# Altium footprint library TO254P1515X470-3N.PcbLib: 2 footprints
Each footprint in its own frame and in the unit in brackets; x right, y up, seen from the top. Pads: shape width x height; smd on the part's side, far side on the other; paste and mask are expansions set on the pad; w line width, h text height; cw(c..) or ccw(c..) is an arc to the next point about the centre after c.
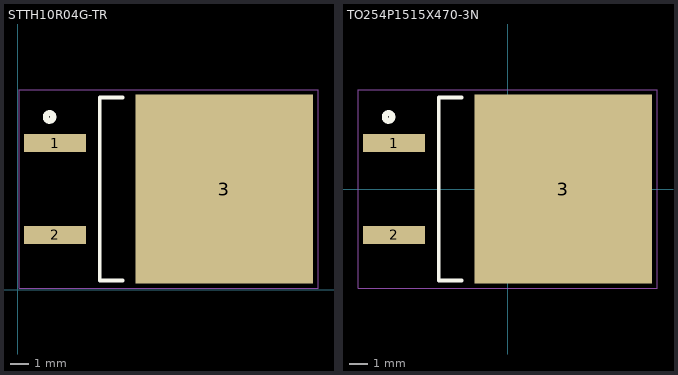
[diagram p0: the footprints below, top view; thin cyan lines are the x and y axes]

## STTH10R04G-TR [mm]
pads (3):
  rect 3.45x1 smd: 1(2.082,8.128) 2(2.082,3.048)
  rect 9.85x10.5 smd: 3(11.482,5.588)
Top Overlay:
  circle w0.2: c1.782,9.588 r0.141
  circle w0.2: c1.782,9.588 r0.283
  lines w0.2: 5.842,0.508 4.572,0.508 4.572,10.668 5.842,10.668
Top Paste:
  region: 14.132,2.348 15.482,2.348 15.482,0.82 14.132,0.82
  region: 12.007,2.348 13.362,2.348 13.362,0.822 12.007,0.822
  region: 9.854,2.348 11.212,2.348 11.212,0.821 9.854,0.821
  region: 7.701,2.348 9.062,2.348 9.062,0.819 7.701,0.819
  region: 14.123,4.348 15.482,4.348 15.482,2.827 14.123,2.827
  region: 12.004,4.348 13.362,4.348 13.362,2.827 12.004,2.827
  region: 9.853,4.348 11.212,4.348 11.212,2.826 9.853,2.826
  region: 7.701,4.348 9.062,4.348 9.062,2.825 7.701,2.825
  region: 14.124,6.348 15.482,6.348 15.482,4.828 14.124,4.828
  region: 12.009,6.348 13.362,6.348 13.362,4.827 12.009,4.827
  region: 9.855,6.348 11.212,6.348 11.212,4.827 9.855,4.827
  region: 7.701,6.348 9.062,6.348 9.062,4.827 7.701,4.827
  region: 14.132,8.348 15.482,8.348 15.482,6.83 14.132,6.83
  region: 12.006,8.348 13.362,8.348 13.362,6.829 12.006,6.829
  region: 9.853,8.348 11.212,8.348 11.212,6.829 9.853,6.829
  region: 7.701,8.348 9.062,8.348 9.062,6.83 7.701,6.83
  region: 14.128,10.348 15.482,10.348 15.482,8.831 14.128,8.831
  region: 12.008,10.348 13.362,10.348 13.362,8.834 12.008,8.834
  region: 9.854,10.348 11.212,10.348 11.212,8.833 9.854,8.833
  region: 7.702,10.348 9.062,10.348 9.062,8.828 7.702,8.828
Mechanical 1:
  lines w0.05: 0.082,0.088 0.082,11.088 16.682,11.088 16.682,0.088 0.082,0.088

## TO254P1515X470-3N [mm]
pads (3):
  rect 3.45x1 smd: 1(-6.3,2.54) 2(-6.3,-2.54)
  rect 9.85x10.5 smd: 3(3.1,0)
Top Overlay:
  circle w0.2: c-6.6,4 r0.283
  circle w0.2: c-6.6,4 r0.141
  lines w0.2: -2.54,-5.08 -3.81,-5.08 -3.81,5.08 -2.54,5.08
Top Paste:
  region: -0.68,4.76 0.68,4.76 0.68,3.24 -0.68,3.24
  region: 1.472,4.76 2.83,4.76 2.83,3.245 1.472,3.245
  region: 3.626,4.76 4.98,4.76 4.98,3.246 3.626,3.246
  region: 5.746,4.76 7.1,4.76 7.1,3.243 5.746,3.243
  region: -0.681,2.76 0.68,2.76 0.68,1.242 -0.681,1.242
  region: 1.471,2.76 2.83,2.76 2.83,1.241 1.471,1.241
  region: 3.624,2.76 4.98,2.76 4.98,1.241 3.624,1.241
  region: 5.75,2.76 7.1,2.76 7.1,1.242 5.75,1.242
  region: -0.681,0.76 0.68,0.76 0.68,-0.761 -0.681,-0.761
  region: 1.473,0.76 2.83,0.76 2.83,-0.761 1.473,-0.761
  region: 3.627,0.76 4.98,0.76 4.98,-0.761 3.627,-0.761
  region: 5.742,0.76 7.1,0.76 7.1,-0.76 5.742,-0.76
  region: -0.681,-1.24 0.68,-1.24 0.68,-2.763 -0.681,-2.763
  region: 1.471,-1.24 2.83,-1.24 2.83,-2.762 1.471,-2.762
  region: 3.622,-1.24 4.98,-1.24 4.98,-2.761 3.622,-2.761
  region: 5.741,-1.24 7.1,-1.24 7.1,-2.761 5.741,-2.761
  region: -0.681,-3.24 0.68,-3.24 0.68,-4.769 -0.681,-4.769
  region: 1.472,-3.24 2.83,-3.24 2.83,-4.767 1.472,-4.767
  region: 3.625,-3.24 4.98,-3.24 4.98,-4.766 3.625,-4.766
  region: 5.75,-3.24 7.1,-3.24 7.1,-4.768 5.75,-4.768
Mechanical 1:
  lines w0.05: -8.3,-5.5 8.3,-5.5 8.3,5.5 -8.3,5.5 -8.3,-5.5